# Altium footprint library INDC3216X12N.PcbLib: 1 footprints
Each footprint in its own frame and in the unit in brackets; x right, y up, seen from the top. Pads: shape width x height; smd on the part's side, far side on the other; paste and mask are expansions set on the pad; w line width, h text height; cw(c..) or ccw(c..) is an arc to the next point about the centre after c.
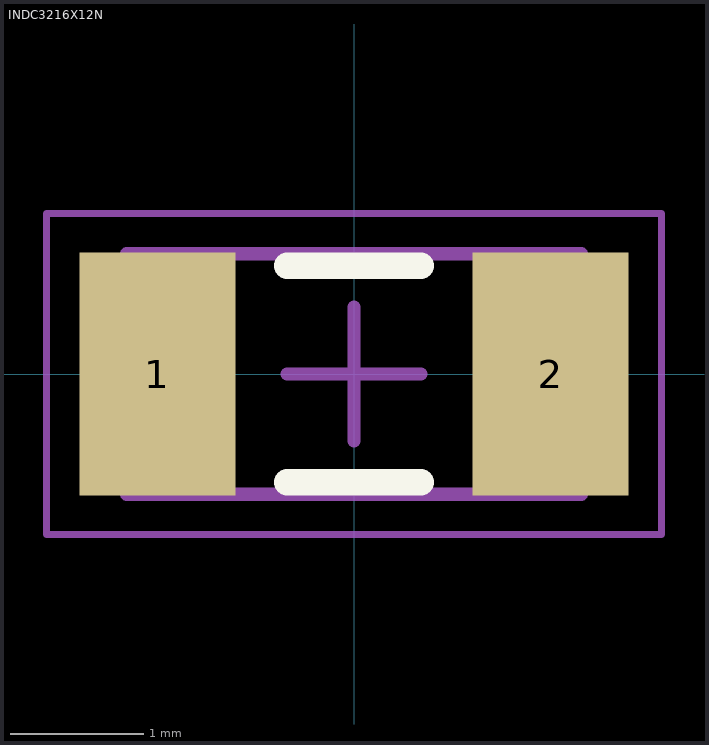
[diagram p0: the footprint, top view; thin cyan lines are the x and y axes]

## INDC3216X12N [mm] "Chip Inductor, 2-Leads, Body 3.20x1.60mm, IPC Medium Density"
height 1.17
pads (2):
  rect 1.17x1.82 smd: 1(-1.47,0) 2(1.47,0)
Top Overlay:
  lines w0.2: -0.5,-0.81 0.5,-0.81 ; -0.5,0.81 0.5,0.81
Mechanical 13:
  lines w0.1: -1.7,-0.9 1.7,-0.9 1.7,0.9 -1.7,0.9 -1.7,-0.9
Mechanical 15:
  lines w0.05: -2.3,-1.2 2.3,-1.2 2.3,1.2 -2.3,1.2 -2.3,-1.2
  lines w0.1: -0.5,0 0.5,0 ; 0,-0.5 0,0.5
3D body "INDC3216X12N.step": height 1.17, standoff 0, extent -1.7,-0.9 1.7,0.9